# Altium footprint library device.PcbLib: 49 footprints (part 1 of 4)
Each footprint in its own frame and in the unit in brackets; x right, y up, seen from the top. Pads: shape width x height; smd on the part's side, far side on the other; paste and mask are expansions set on the pad; w line width, h text height; cw(c..) or ccw(c..) is an arc to the next point about the centre after c.
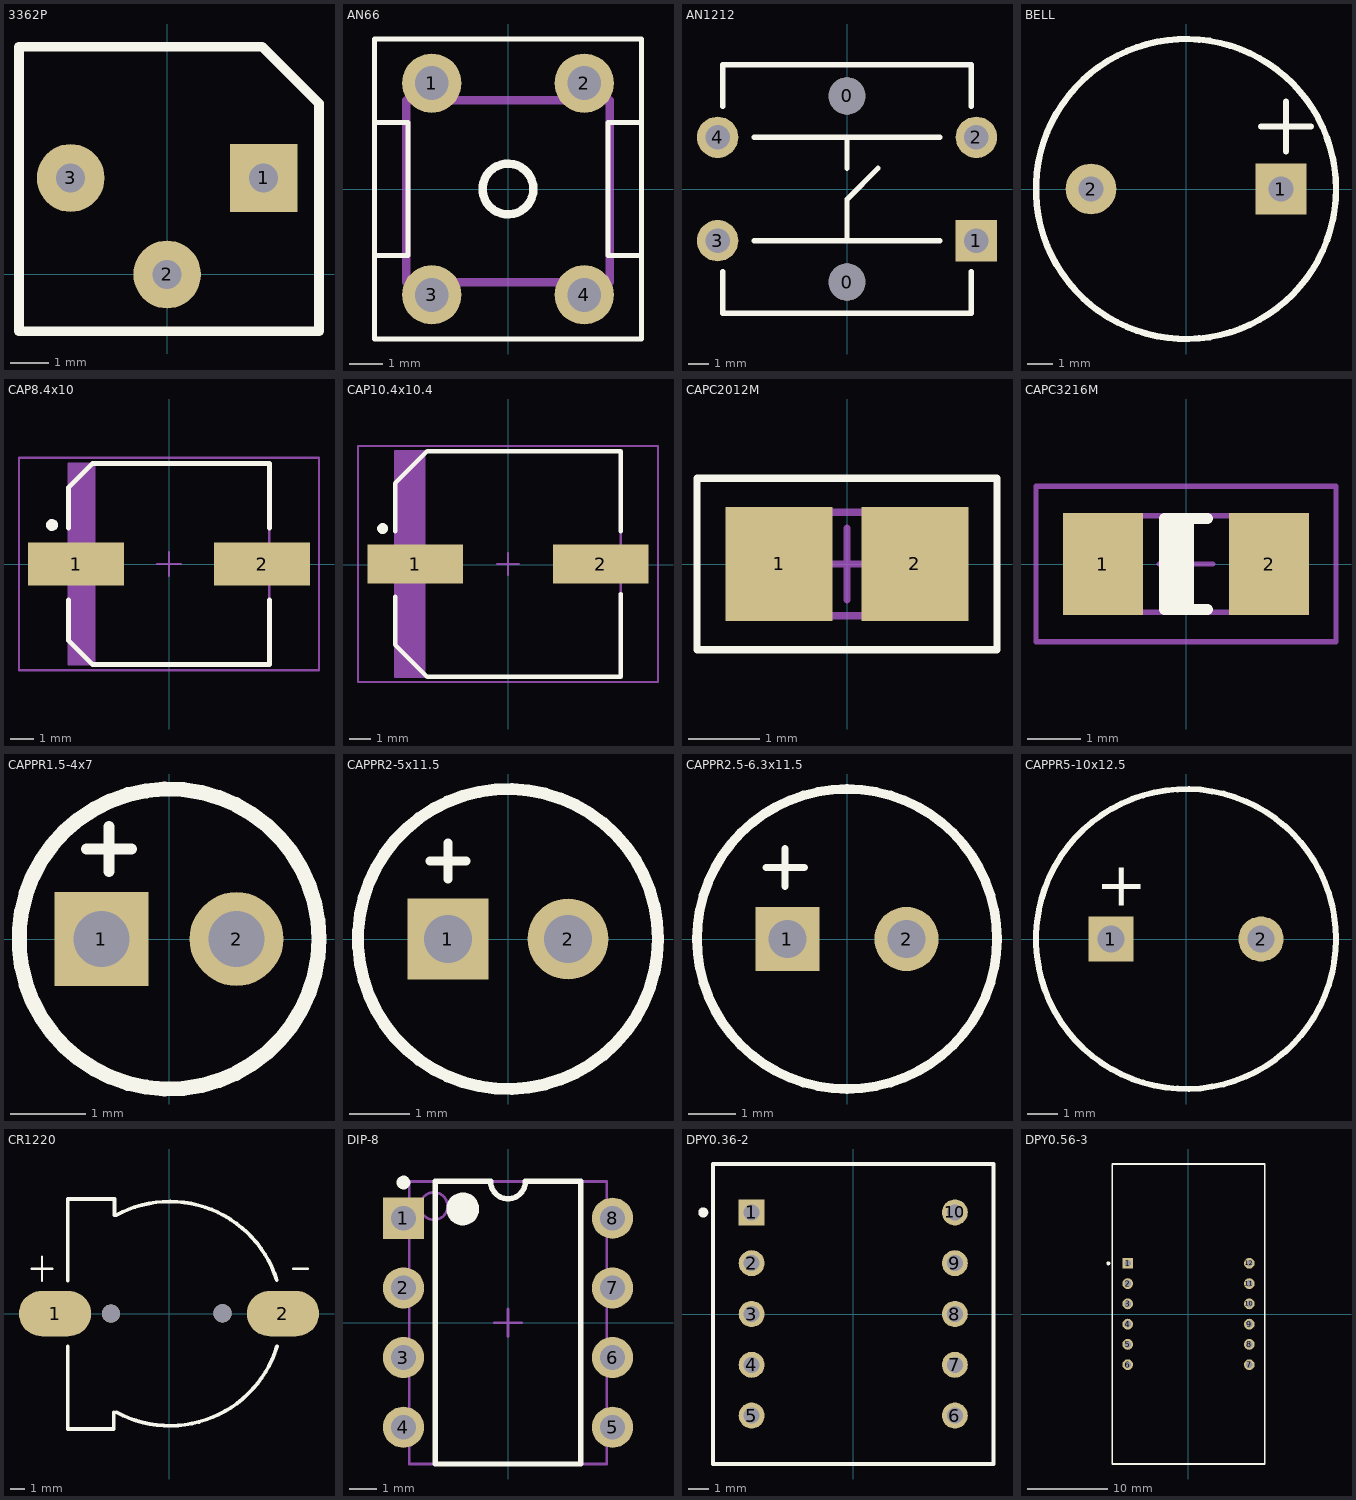
[diagram p0: the footprints below, top view; thin cyan lines are the x and y axes]

## 3362P [mil]
pads (3):
  rect 70x70.39 hole 30: 1(100,100)
  oval 70x70.39 hole 30: 2(0,0) 3(-100,100)
Top Overlay:
  lines w10: 98.43,236.22 -153.54,236.22 -153.54,-59.06 157.48,-59.06 157.48,177.17 ; 98.43,236.22 157.48,177.17 ; 98.43,236.22 157.48,177.17

## AN66 [mil]
pads (4):
  round 70 hole 40: 1(-90,125) 2(90,125) 3(-90,-125) 4(90,-125)
Top Overlay:
  circle w10: c0,0 r30
  lines w6: -157.48,78.74 -118.11,78.74 -118.11,-78.74 -153.54,-78.74 ; 157.48,-78.74 118.11,-78.74 118.11,78.74 157.48,78.74 ; -157.48,-177.17 -157.48,177.17 157.48,177.17 157.48,-177.17 -157.48,-177.17
Mechanical 15:
  lines w10: -120,-110 -120,105 120,105 120,-110 -120,-110

## AN1212 [mm]
height 7.3
pads (6):
  oval 1.7x1.8 hole 1.8: 0(0,-4.5) 0(0,4.5)
  rect 2x2 hole 1.2: 1(6.25,-2.5)
  round 2 hole 1.2: 2(6.25,2.5) 3(-6.25,-2.5) 4(-6.25,2.5)
Top Overlay:
  lines w0.254: -6,-4 -6,-6 6,-6 6,-4 ; -6,4 -6,6 6,6 6,4 ; -4.5,-2.5 4.5,-2.5 ; -4.5,2.5 4.5,2.5 ; 0,-2.4 0,-1 0,-0.6 0,-0.5 1.5,1 ; 0,1 0,2.5

## BELL [mil]
pads (2):
  rect 80x80 hole 40: 1(149.61,0)
  round 80 hole 40: 2(-149.61,0)
Top Overlay:
  circle w10: c0,0 r236.22
  lines w10: 118.11,98.43 137.8,98.43 196.85,98.43 ; 157.48,59.06 157.48,137.8

## CAP8.4x10 [mm]
pads (2):
  rect 4.05x1.8 smd: 1(-3.937,0) 2(3.937,0)
Top Overlay:
  circle w0.25: c-4.951,1.651 r0.125
  lines w0.2: -4.25,-1.524 -4.25,-3.243 -3.243,-4.25 4.25,-4.25 4.25,-1.524 ; -4.25,1.524 -4.25,3.243 -3.243,4.25 4.25,4.25 4.25,1.524
Mechanical 13:
  rectangle: -4.25,-4.25 -3.107,4.25
  lines w0.1: -4.25,-4.25 -4.25,4.25 4.25,4.25 4.25,-4.25 -4.25,-4.25
Mechanical 15:
  lines w0.1: -0.5,0 0.5,0 ; 0,-0.5 0,0.5 ; -6.35,-4.5 -6.35,4.5 6.35,4.5 6.35,-4.5 -6.35,-4.5
3D body: height 10, standoff 0, extent -4.25,-4.25 4.25,4.25

## CAP10.4x10.4 [mm] "CAP"
pads (2):
  rect 4.45x1.8 smd: 1(-4.318,0.025) 2(4.318,0.025)
Top Overlay:
  circle w0.25: c-5.84,1.676 r0.125
  lines w0.2: -5.25,-1.499 -5.25,-3.742 -3.767,-5.225 5.25,-5.225 5.25,-1.372 ; -5.25,1.549 -5.25,3.792 -3.767,5.275 5.25,5.275 5.25,1.549
Mechanical 13:
  rectangle: -5.25,-5.225 -3.838,5.275
  lines w0.1: -5.25,-5.225 5.25,-5.225 5.25,5.275 -5.25,5.275 -5.25,-5.225
Mechanical 15:
  lines w0.1: -0.5,0.025 0.5,0.025 ; 0,-0.475 0,0.525 ; -6.985,-5.475 6.985,-5.475 6.985,5.525 -6.985,5.525 -6.985,-5.475
3D body: height 10.5, standoff 0, extent -5.25,-5.225 5.25,5.275

## CAPC2012M [mm] "Chip Capacitor, Body 2.0x1.3mm, IPC Low Density"
height 1.1
pads (2):
  rect 1.5x1.6 smd: 1(-0.95,0) 2(0.95,0)
Top Overlay:
  lines w0.1: -2.1,-1.2 2.1,-1.2 2.1,1.2 -2.1,1.2 -2.1,-1.2
Mechanical 13:
  lines w0.1: -1.1,-0.725 1.1,-0.725 1.1,0.725 -1.1,0.725 -1.1,-0.725
Mechanical 15:
  lines w0.1: -0.5,0 0.5,0 ; 0,-0.5 0,0.5
3D body: height 1.1, standoff 0, extent -1.1,-0.725 1.1,0.725

## CAPC3216M [mm] "Chip Capacitor, Body 3.2x1.6mm, IPC Low Density"
height 1.35
pads (2):
  rect 1.5x1.9 smd: 1(-1.55,0) 2(1.55,0)
Top Overlay:
  rectangle: -0.4,-0.85 0.15,0.85
  lines w0.2: 0.4,-0.85 -0.4,-0.85 -0.4,0.85 0.4,0.85
Mechanical 13:
  lines w0.1: -1.7,-0.9 -1.7,0.9 1.7,0.9 1.7,-0.9 -1.7,-0.9
Mechanical 15:
  lines w0.1: -0.5,0 0.5,0 ; 0,-0.5 0,0.5 ; -2.8,-1.45 -2.8,1.45 2.8,1.45 2.8,-1.45 -2.8,-1.45
3D body: height 1.35, standoff 0, extent -1.7,-0.9 1.7,0.9

## CAPPR1.5-4x7 [mm] "Capacitor, Electrolytic, Radial; Body 4 x 7 mm (Dia.xH typ); Pin Spacing 1.5 mm (typ)"
height 8
pads (2):
  rect 1.25x1.25 hole 0.75: 1(-0.9,0)
  round 1.25 hole 0.75: 2(0.9,0)
Top Overlay:
  circle w0.2: c0,0 r2
  lines w0.152: -1.1,1.2 -0.5,1.2 ; -0.8,0.9 -0.8,1.5

## CAPPR2-5x11.5 [mm] "Capacitor, Electrolytic, Radial; Body 5 x 11.5 mm (Dia.xH typ); Pin Spacing 2 mm (typ)"
height 13
pads (2):
  rect 1.35x1.35 hole 0.8: 1(-1,0)
  round 1.35 hole 0.8: 2(1,0)
Top Overlay:
  circle w0.2: c0,0 r2.5
  lines w0.152: -1.3,1.3 -0.7,1.3 ; -1,1 -1,1.6

## CAPPR2.5-6.3x11.5 [mm] "Capacitor, Electrolytic, Radial; Body 6.3 x 11.5 mm (Dia.xH typ); Pin Spacing 2.5 mm (typ)"
height 13
pads (2):
  rect 1.35x1.35 hole 0.8: 1(-1.25,0)
  round 1.35 hole 0.8: 2(1.25,0)
Top Overlay:
  circle w0.2: c0,0 r3.15
  lines w0.152: -1.7,1.5 -0.9,1.5 ; -1.3,1.1 -1.3,1.9

## CAPPR5-10x12.5 [mm] "Capacitor, Electrolytic, Radial; Body 10 x 12.5 mm (Dia.xH typ); Pin Spacing 5 mm (typ)"
height 14.5
pads (2):
  rect 1.5x1.5 hole 0.9: 1(-2.5,0)
  round 1.5 hole 0.9: 2(2.5,0)
Top Overlay:
  circle w0.2: c0,0 r5
  text "+" at -3,1.1 h1.5

## CR1220 [mil]
pads (4):
  oval 190x120 smd: 1(-300,0) 2(300,0)
  round 48 hole 48 unplated: ""(-153,0) ""(141,0.76)
Top Overlay:
  lines w6: -362.2,118.11 -307.09,118.11 ; -334.65,86.61 -334.65,149.61 ; 326.77,118.11 366.14,118.11
  lines w10: -266.57,-86.61 -266.57,-304 -145.57,-304 -145.57,-259.6 ; -266.57,86.61 -266.57,302 -143.83,302 -143.83,258.92 ; -139.99,258.92 cw(c1.96,0) 283.83,87.96 ; -138.73,-259.6 ccw(c1.96,0) 284.51,-85.74

## DIP-8 [mm] "DIP; 8 Leads; Row Spacing 7.62 mm; Pitch 2.54 mm"
height 5.08
pads (8):
  rect 1.5x1.5 hole 0.9: 1(-3.81,3.81)
  round 1.5 hole 0.9: 2(-3.81,1.27) 3(-3.81,-1.27) 4(-3.81,-3.81) 5(3.81,-3.81) 6(3.81,-1.27) 7(3.81,1.27) 8(3.81,3.81)
Top Overlay:
  circle w0.6: c-1.65,4.15 r0.3
  circle w0.25: c-3.81,5.11 r0.125
  lines w0.2: -2.65,-5.15 2.65,-5.15 2.65,5.15 0.635,5.15 cw(c0,5.15) -0.635,5.15 -2.65,5.15 -2.65,-5.15
Mechanical 13:
  circle w0.1: c-2.7,4.25 r0.5
  lines w0.1: -3.6,-5.15 3.6,-5.15 3.6,5.15 -3.6,5.15 -3.6,-5.15
Mechanical 15:
  lines w0.1: -0.5,0 0.5,0 ; 0,-0.5 0,0.5
3D body: height 5.08, standoff 0, extent -3.6,-5.15 3.6,5.15

## DPY0.36-2 [mm] "0.36寸2位数码管"
height 7.2
pads (10):
  rect 1.3x1.3 / inner round 1.3 / far side rect 1.3x1.3 hole 0.8: 1(-5.08,5.08)
  round 1.3 hole 0.8: 2(-5.08,2.54) 3(-5.08,0) 4(-5.08,-2.54) 5(-5.08,-5.08) 6(5.08,-5.08) 7(5.08,-2.54) 8(5.08,0) 9(5.08,2.54) 10(5.08,5.08)
Top Overlay:
  circle w0.25: c-7.5,5.08 r0.125
  lines w0.2: -7,-7.5 7,-7.5 7,7.5 -7,7.5 -7,-7.5

## DPY0.56-3 [mm]
pads (12):
  rect 1.35x1.35 / inner round 1.35 / far side rect 1.35x1.35 hole 0.85: 1(-7.62,6.35)
  round 1.35 hole 0.85: 2(-7.62,3.81) 3(-7.62,1.27) 4(-7.62,-1.27) 5(-7.62,-3.81) 6(-7.62,-6.35) 7(7.62,-6.35) 8(7.62,-3.81) 9(7.62,-1.27) 10(7.62,1.27) 11(7.62,3.81) 12(7.62,6.35)
Top Overlay:
  circle w0.25: c-10.05,6.35 r0.125
  lines w0.2: -9.55,-18.8 9.55,-18.8 9.55,18.8 -9.55,18.8 -9.55,-18.8